# EAGLE library part HW-407BLUETOOTH (library Custom)
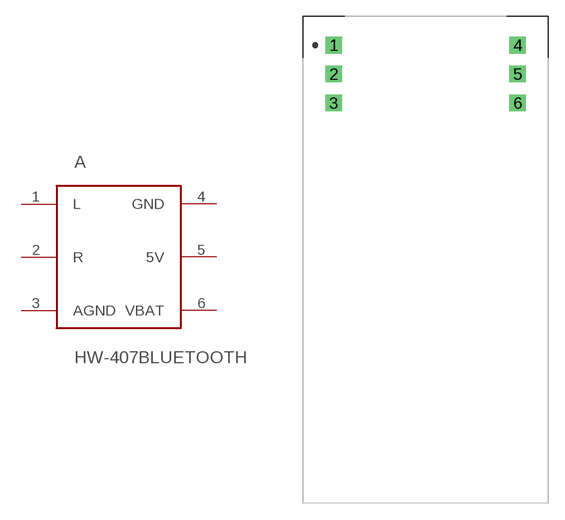
[diagram p0: symbol with the pads of HW-407BLUETOOTH; footprint HW-407BLUETOOTH]

Designator prefix A

## HW-407BLUETOOTH  [HW-407BLUETOOTH]
1  L
2  R
3  AGND
4  GND
5  5V
6  VBAT

## Footprint HW-407BLUETOOTH (pad centres in mm)
drill 1.016 square: 1 -8.484,0; 2 -8.484,-2.667; 3 -8.484,-5.334; 4 8.484,0; 5 8.484,-2.667; 6 8.484,-5.334